# Altium footprint library SmartScale_PcbLib1.PcbLib: 51 footprints (part 3 of 4)
Each footprint in its own frame and in the unit in brackets; x right, y up, seen from the top. Pads: shape width x height; smd on the part's side, far side on the other; paste and mask are expansions set on the pad; w line width, h text height; cw(c..) or ccw(c..) is an arc to the next point about the centre after c.
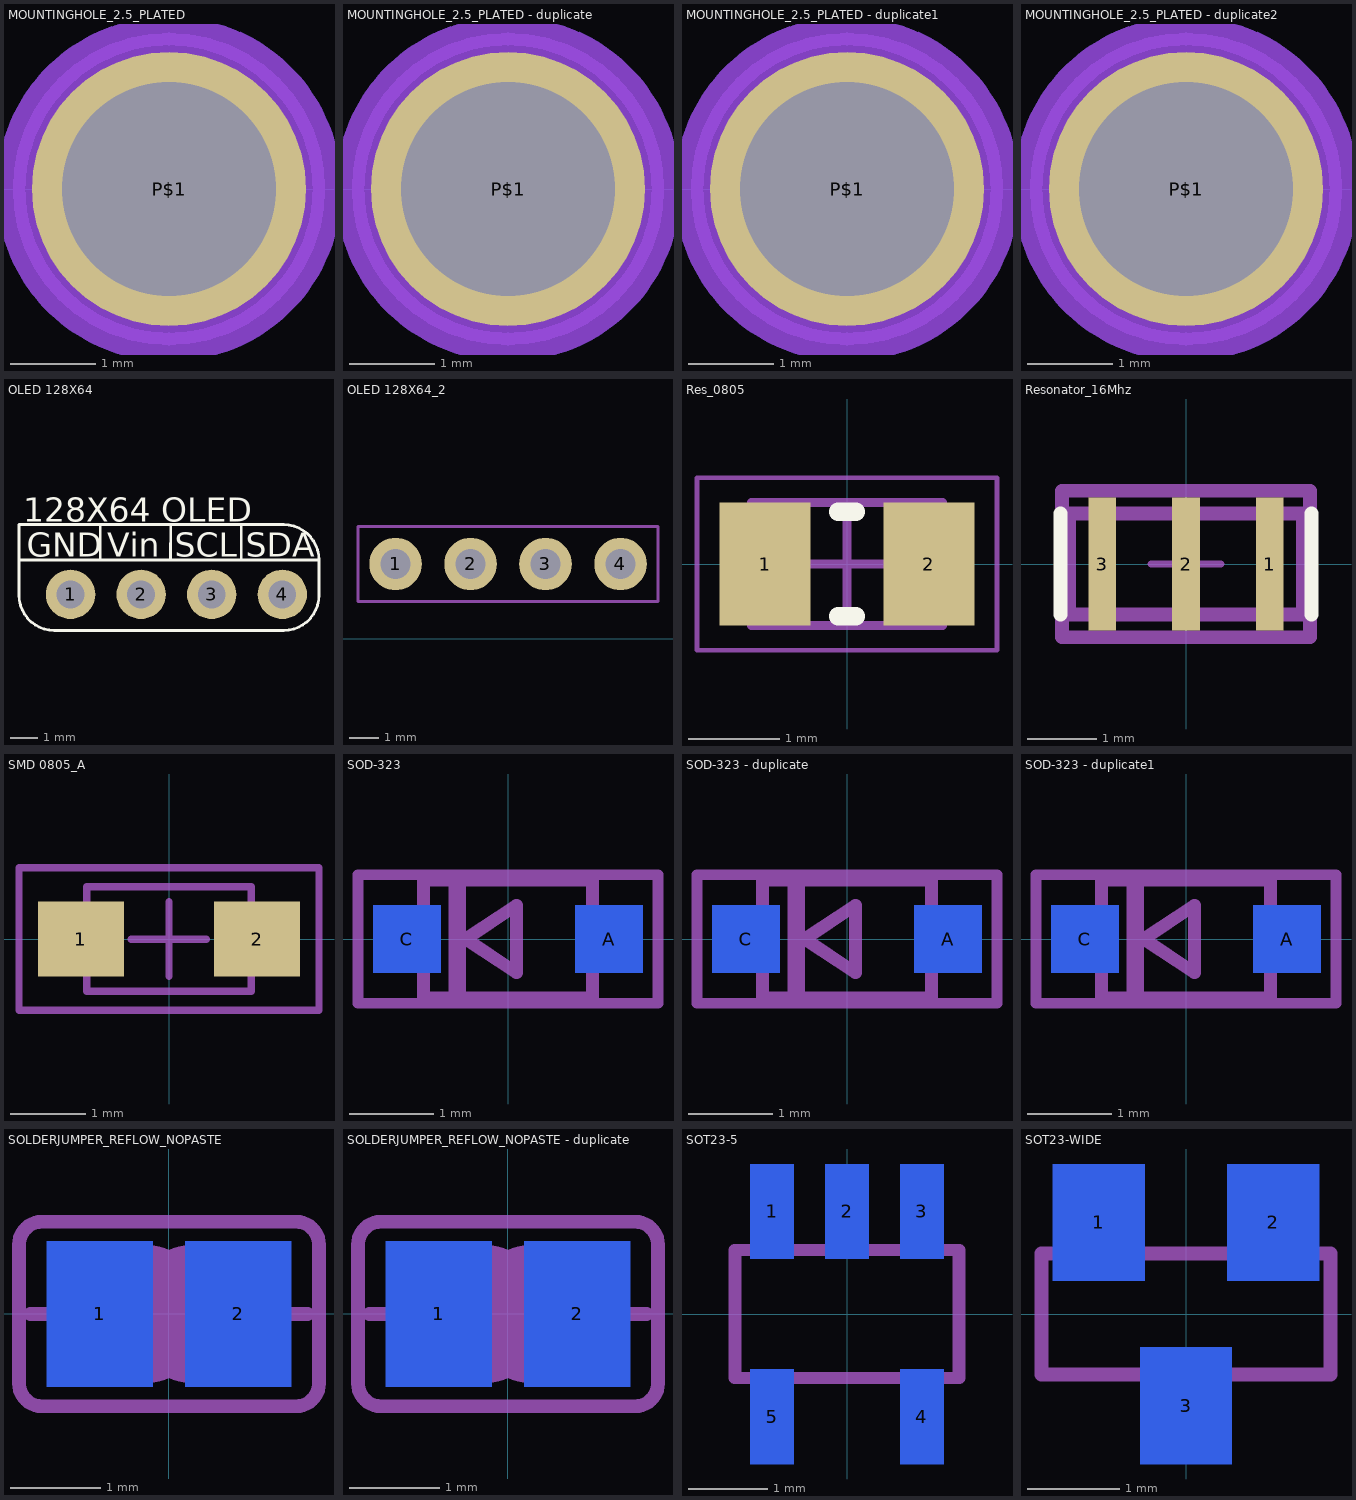
[diagram p2: the footprints below, top view; thin cyan lines are the x and y axes]

## MOUNTINGHOLE_2.5_PLATED [mm] "MOUNTINGHOLE_2.5_PLATED"
pads (1):
  round 3.2 hole 2.5: P$1(0,0)
Top Layer keep-out:
  circle w2.032: c0,0 r1
  circle w2.032: c0,0 r1
Bottom Layer keep-out:
  circle w2.032: c0,0 r1
  circle w2.032: c0,0 r1
Mechanical 7:
  circle w0.152: c0,0 r1.75

## MOUNTINGHOLE_2.5_PLATED - duplicate [mm] "MOUNTINGHOLE_2.5_PLATED"
pads (1):
  round 3.2 hole 2.5: P$1(0,0)
Top Layer keep-out:
  circle w2.032: c0,0 r1
  circle w2.032: c0,0 r1
Bottom Layer keep-out:
  circle w2.032: c0,0 r1
  circle w2.032: c0,0 r1
Mechanical 7:
  circle w0.152: c0,0 r1.75

## MOUNTINGHOLE_2.5_PLATED - duplicate1 [mm] "MOUNTINGHOLE_2.5_PLATED"
pads (1):
  round 3.2 hole 2.5: P$1(0,0)
Top Layer keep-out:
  circle w2.032: c0,0 r1
  circle w2.032: c0,0 r1
Bottom Layer keep-out:
  circle w2.032: c0,0 r1
  circle w2.032: c0,0 r1
Mechanical 7:
  circle w0.152: c0,0 r1.75

## MOUNTINGHOLE_2.5_PLATED - duplicate2 [mm] "MOUNTINGHOLE_2.5_PLATED"
pads (1):
  round 3.2 hole 2.5: P$1(0,0)
Top Layer keep-out:
  circle w2.032: c0,0 r1
  circle w2.032: c0,0 r1
Bottom Layer keep-out:
  circle w2.032: c0,0 r1
  circle w2.032: c0,0 r1
Mechanical 7:
  circle w0.152: c0,0 r1.75

## OLED 128X64 [mil]
pads (4):
  round 70 hole 39.37: 1(598.03,1001.18) 2(698.03,1001.18) 3(798.03,1001.18) 4(898.03,1001.18)
Bottom Layer:
  lines w10: 598.03,1001.18 599.06,1000.16 ; 698.03,1001.18 699.06,1000.16 ; 798.03,1001.18 799.06,1000.16 ; 898.03,1001.18 900,1003.15
Top Overlay:
  lines w3.94: 525,1050 950,1050 ; 640,1050 640,1100 ; 739.8,1050.06 740,1100 ; 840,1050 840,1100 ; 950,1050 ccw(c900,1050) 900,1100 525,1100 525,1000 ccw(c575,1000) 575,950 900,950 ccw(c900,1000) 950,1000 950,1050
  text "128X64 OLED" at 530.94,1104.41 h34
  text "SDA" at 845.94,1054.41 h34
  text "GND" at 535.94,1054.41 h34
  text "Vin" at 650,1054.41 h34
  text "SCL" at 745.94,1054.41 h34
Mechanical 3:
  region: 588.03,991.18 588.03,1011.18 608.03,1011.18 608.03,991.18
  region: 688.03,991.18 688.03,1011.18 708.03,1011.18 708.03,991.18
  region: 788.03,991.18 788.03,1011.18 808.03,1011.18 808.03,991.18
  region: 888.03,991.18 888.03,1011.18 908.03,1011.18 908.03,991.18
3D body "OLED_27x27_r2.STEP": height 378.74, standoff 24.41, extent 212.6,-7.4 1287.41,1067.41

## OLED 128X64_2 [mil]
pads (4):
  round 70 hole 39.37: 1(100,100) 2(200,100) 3(300,100) 4(400,100)
Mechanical 1:
  lines w3.94: 50,50 50,150 450,150 450,50 50,50

## Res_0805 [mm] "Chip Resistor, 2-Leads, Body 2.1x1.35mm, IPC Medium Density"
height 0.6
pads (2):
  rect 1x1.35 smd: 1(-0.9,0) 2(0.9,0)
Top Overlay:
  lines w0.2: -0.1,-0.575 0.1,-0.575 ; -0.1,0.575 0.1,0.575
Mechanical 13:
  lines w0.1: -1.05,-0.675 1.05,-0.675 1.05,0.675 -1.05,0.675 -1.05,-0.675
Mechanical 15:
  lines w0.05: -1.65,-0.95 1.65,-0.95 1.65,0.95 -1.65,0.95 -1.65,-0.95
  lines w0.1: -0.5,0 0.5,0 ; 0,-0.5 0,0.5
3D body "RESC2012X06N.step": height 0.6, standoff 0, extent -1.05,-0.675 1.05,0.675

## Resonator_16Mhz [mm]
pads (3):
  rect 0.4x1.9 smd paste+0 mask+0: 1(1.2,0) 2(0,0) 3(-1.2,0)
Top Overlay:
  lines w0.2: -1.8,-0.725 -1.8,0.725 ; 1.8,-0.725 1.8,0.725
Mechanical 5:
  lines w0.2: -1.775,-1.05 -1.775,1.05 1.775,1.05 1.775,-1.05 -1.775,-1.05
  text ".Designator" at 0,0 h1
Mechanical 13:
  lines w0.2: -1.675,-0.725 -1.675,0.725 1.675,0.725 1.675,-0.725 -1.675,-0.725
Mechanical 15:
  lines w0.2: -1.775,-1.05 -1.775,1.05 1.775,1.05 1.775,-1.05 -1.775,-1.05
Mechanical 16:
  lines w0.1: -0.5,0 0.5,0 ; 0,-0.5 0,0.5
3D body "Crys_Murata_CSTNE16M0V530000R0_eec.STEP": height 0.25, standoff 0, extent -1.775,-1.05 1.775,1.05

## SMD 0805_A [mm] "Chip Inductor, 2-Leads, Body 2,0x1,2mm"
height 1.1
pads (2):
  rect 1.15x1 smd: 1(-1.175,0) 2(1.175,0)
Mechanical 13:
  lines w0.1: -1.1,-0.7 -1.1,0.7 1.1,0.7 1.1,-0.7 -1.1,-0.7
Mechanical 15:
  lines w0.1: -0.5,0 0.5,0 ; 0,-0.5 0,0.5 ; -2,-0.95 -2,0.95 2,0.95 2,-0.95 -2,-0.95
3D body "74279201.stp": height 0.89, standoff -0.01, extent -1,-0.6 1,0.6

## SOD-323 [mil] "SOD-323"
pads (2):
  rect 31.5x31.5 smd far side: A(47.24,0) C(-47.24,0)
Mechanical 3:
  text "41" at 21.93,-11.48 h20.4
Mechanical 4:
  region: -27.56,27.56 -27.56,-27.56 -19.69,-27.56 -19.69,27.56
  lines w6: -39.37,-27.56 -39.37,27.56 39.37,27.56 39.37,-27.56 -39.37,-27.56 ; -19.69,0 3.94,15.75 3.94,-15.75 -19.69,0
Mechanical 8:
  lines w5: -70,-30 -70,30 70,30 70,-30 -70,-30

## SOD-323 - duplicate [mil] "SOD-323"
pads (2):
  rect 31.5x31.5 smd far side: A(47.24,0) C(-47.24,0)
Mechanical 3:
  text "41" at 21.93,-11.48 h20.4
Mechanical 4:
  region: -27.56,27.56 -27.56,-27.56 -19.69,-27.56 -19.69,27.56
  lines w6: -39.37,-27.56 39.37,-27.56 39.37,27.56 -39.37,27.56 -39.37,-27.56 ; -19.69,0 3.94,-15.75 3.94,15.75 -19.69,0
Mechanical 8:
  lines w5: -70,-30 70,-30 70,30 -70,30 -70,-30

## SOD-323 - duplicate1 [mil] "SOD-323"
pads (2):
  rect 31.5x31.5 smd far side: A(47.24,0) C(-47.24,0)
Mechanical 3:
  text "41" at 21.93,-11.48 h20.4
Mechanical 4:
  region: -27.56,27.56 -27.56,-27.56 -19.69,-27.56 -19.69,27.56
  lines w6: -39.37,-27.56 39.37,-27.56 39.37,27.56 -39.37,27.56 -39.37,-27.56 ; -19.69,0 3.94,-15.75 3.94,15.75 -19.69,0
Mechanical 8:
  lines w5: -70,-30 70,-30 70,30 -70,30 -70,-30

## SOLDERJUMPER_REFLOW_NOPASTE [mil] "SOLDERJUMPER_REFLOW_NOPASTE"
pads (2):
  rect 46x63 smd far side paste+0: 1(-30,0) 2(30,0)
Bottom Solder:
  region: -3,36 -3,-36 3,-36 3,36
Mechanical 4:
  lines w6: -60,0 -40,0 ; 40,0 60,0
  lines w50: -10,-5 cw(c-10,0) -10,5 ; 10,-5 ccw(c10,0) 10,5
Mechanical 8:
  lines w6: -65,-30 ccw(c-55,-30) -55,-40 55,-40 ccw(c55,-30) 65,-30 65,30 ccw(c55,30) 55,40 -55,40 ccw(c-55,30) -65,30 -65,-30

## SOLDERJUMPER_REFLOW_NOPASTE - duplicate [mil] "SOLDERJUMPER_REFLOW_NOPASTE"
pads (2):
  rect 46x63 smd far side paste+0: 1(-30,0) 2(30,0)
Bottom Solder:
  region: -3,36 -3,-36 3,-36 3,36
Mechanical 4:
  lines w6: -60,0 -40,0 ; 40,0 60,0
  lines w50: -10,-5 cw(c-10,0) -10,5 ; 10,-5 ccw(c10,0) 10,5
Mechanical 8:
  lines w6: -65,-30 ccw(c-55,-30) -55,-40 55,-40 ccw(c55,-30) 65,-30 65,30 ccw(c55,30) 55,40 -55,40 ccw(c-55,30) -65,30 -65,-30

## SOT23-5 [mm] "SOT23-5"
pads (5):
  rect 0.55x1.2 smd far side: 1(-0.95,1.3) 2(0,1.3) 3(0.95,1.3) 4(0.95,-1.3) 5(-0.95,-1.3)
Mechanical 4:
  region: -1.2,1.5 -1.2,0.85 -0.7,0.85 -0.7,1.5
  region: -0.25,1.5 -0.25,0.85 0.25,0.85 0.25,1.5
  region: 0.7,1.5 0.7,0.85 1.2,0.85 1.2,1.5
  region: 0.7,-0.85 0.7,-1.5 1.2,-1.5 1.2,-0.85
  region: -1.2,-0.85 -1.2,-1.5 -0.7,-1.5 -0.7,-0.85
  lines w0.152: -1.422,-0.811 -1.422,0.811 1.422,0.811 1.422,-0.811 -1.422,-0.811
Mechanical 8:
  lines w0.127: -1.3,-0.8 -1.4,-0.8 -1.4,0.8 -1.3,0.8 ; -0.6,-0.8 0.6,-0.8 ; -0.6,0.8 -0.4,0.8 ; 0.4,0.8 0.6,0.8 ; 1.3,-0.8 1.4,-0.8 1.4,0.8 1.3,0.8

## SOT23-WIDE [mm] "SOT23-WIDE"
pads (3):
  rect 1x1.27 smd far side: 1(-0.95,1) 2(0.95,1) 3(0,-1)
Mechanical 4:
  region: -1.168,1.295 -1.168,0.711 -0.711,0.711 -0.711,1.295
  region: 0.711,1.295 0.711,0.711 1.168,0.711 1.168,1.295
  region: -0.229,-0.711 -0.229,-1.295 0.229,-1.295 0.229,-0.711
  lines w0.152: -1.573,-0.66 1.573,-0.66 1.573,0.66 -1.573,0.66 -1.573,-0.66
Mechanical 8:
  lines w0.152: -1.573,0.653 -1.573,-0.66 -0.514,-0.66 ; -0.436,0.66 0.422,0.66 ; 0.564,-0.66 1.573,-0.66 1.573,0.653